# Altium footprint library PB-03F.PcbLib: 12 footprints
Each footprint in its own frame and in the unit in brackets; x right, y up, seen from the top. Pads: shape width x height; smd on the part's side, far side on the other; paste and mask are expansions set on the pad; w line width, h text height; cw(c..) or ccw(c..) is an arc to the next point about the centre after c.
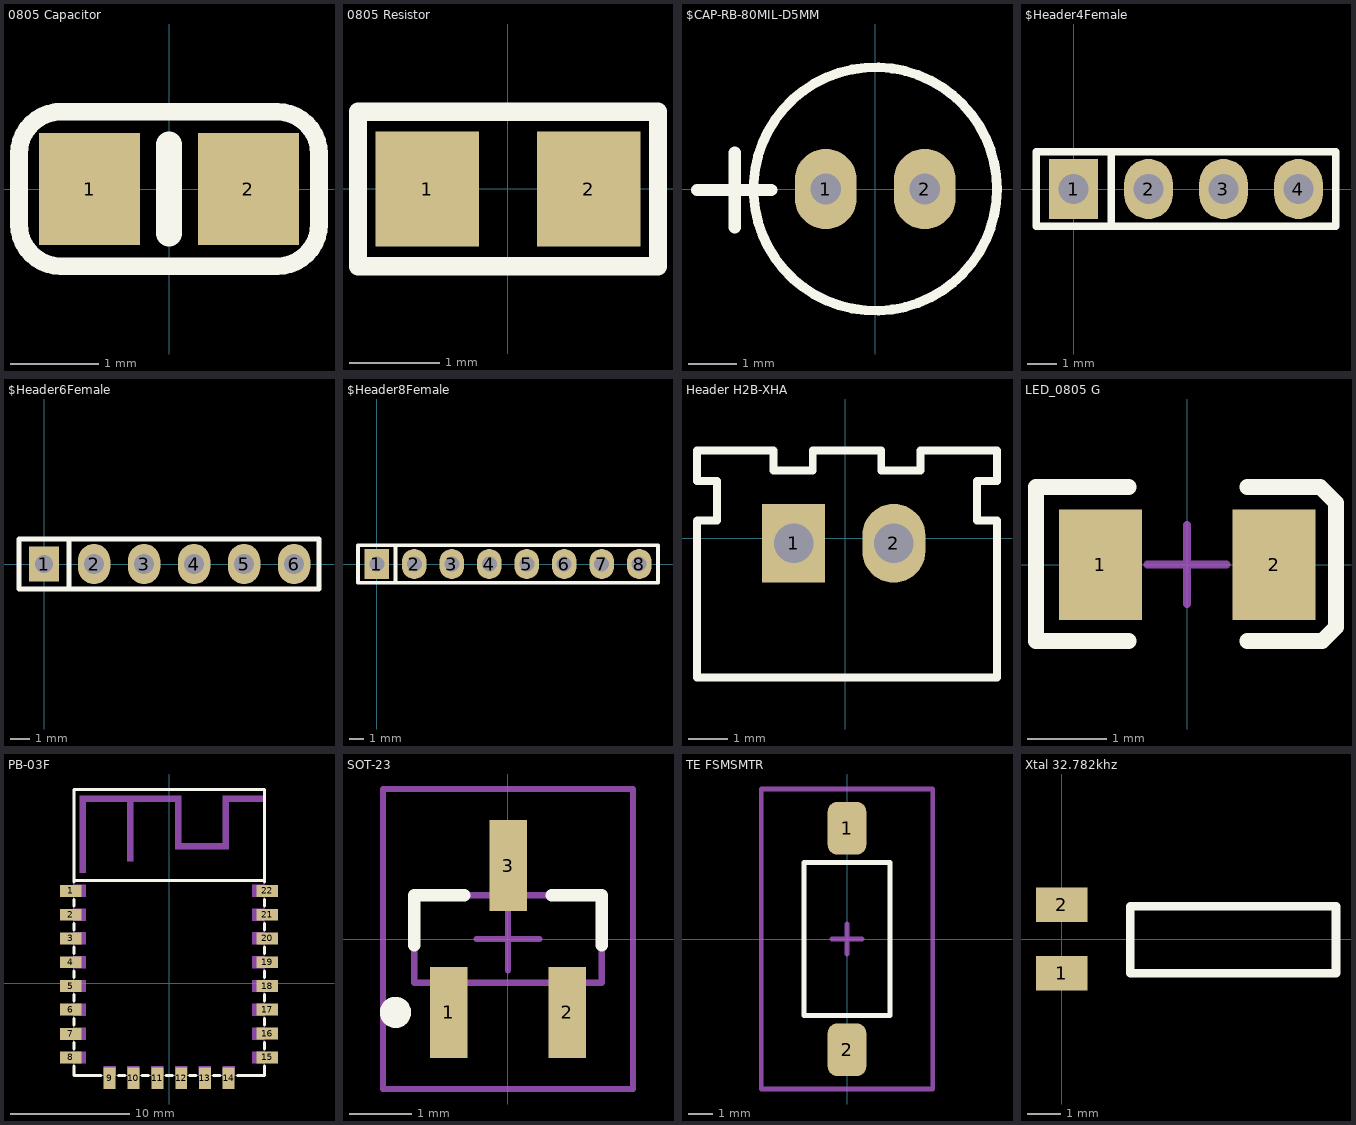
[diagram p0: the footprints below, top view; thin cyan lines are the x and y axes]

## 0805 Capacitor [mil]
height 60
pads (2):
  rect 45x50 smd: 1(-35.43,0) 2(35.43,0)
Top Overlay:
  lines w7.87: -50.2,34.45 48.23,34.45 cw(c48.23,15.75) 66.93,15.75 66.93,-15.75 cw(c48.23,-15.75) 48.23,-34.45 -48.23,-34.45 cw(c-48.23,-15.75) -66.93,-15.75 -66.93,15.75 cw(c-48.23,15.75) -48.23,34.45
  lines w11.81: 0,-19.68 0,19.68
3D body "SW3dPS-0805 SMD Capacitor.STEP": height 30.79, standoff 0, extent -39.36,-24.6 39.37,24.61

## 0805 Resistor [mil]
height 60
pads (2):
  rect 45x50 smd: 1(-35,0) 2(35,0)
Top Overlay:
  lines w7.87: -65,-33.46 65,-33.46 65,33.46 -65,33.46 -65,-33.46
3D body "User Library-RESC2012X05N.STEP": height 17.76, standoff 0, extent -39.36,-24.6 39.38,24.61

## $CAP-RB-80MIL-D5MM [mil]
height 60
pads (2):
  oval 50x65 hole 25: 1(-40,0) 2(40,0)
Top Overlay:
  circle w7.87: c0,0 r98.43
  lines w10: -144.08,-0.79 -84.08,-0.79 ; -113.69,-30.79 -113.69,29.21
3D body "SW3dPS-Cap electro 5x11x2mm.STEP": height 445.88, standoff -136.68, extent -99.43,-99.43 99.42,99.42

## $Header4Female [mil]
height 60
pads (4):
  rect 65x80 hole 40: 1(0,0)
  oval 65x80 hole 40: 2(100,0) 3(200,0) 4(300,0)
Top Overlay:
  lines w10: 50,-50 50,50 ; -50,-50 -50,50 350,50 350,-50 -50,-50
3D body: height 300, standoff -100, extent 285,-15 315,15
3D body: height 300, standoff -100, extent 185,-15 215,15
3D body: height 300, standoff -100, extent 85,-15 115,15
3D body: height 300, standoff -100, extent -15,-15 15,15
3D body: height 350, standoff 0, extent -50,-50 350,50

## $Header6Female [mil]
height 60
pads (6):
  rect 59.06x70.87 hole 35.43: 1(0,0)
  oval 65x80 hole 40: 2(100,0) 3(200,0) 4(300,0) 5(400,0) 6(500,0)
Top Overlay:
  lines w10: 50,-50 50,50 ; -50,-50 550,-50 550,50 -50,50 -50,-50
3D body: height 300, standoff -100, extent 485,-15 515,15
3D body: height 300, standoff -100, extent 385,-15 415,15
3D body: height 300, standoff -100, extent 285,-15 315,15
3D body: height 300, standoff -100, extent 185,-15 215,15
3D body: height 300, standoff -100, extent 85,-15 115,15
3D body: height 300, standoff -100, extent -15,-15 15,15
3D body: height 350, standoff 0, extent -50,-50 550,50

## $Header8Female [mil]
height 60
pads (8):
  rect 65x80 hole 40: 1(0,0)
  oval 65x80 hole 40: 2(100,0) 3(200,0) 4(300,0) 5(400,0) 6(500,0) 7(600,0) 8(700,0)
Top Overlay:
  lines w10: 50,-50 50,50 ; -50,-50 750,-50 750,50 -50,50 -50,-50
3D body: height 300, standoff -100, extent 685,-15 715,15
3D body: height 300, standoff -100, extent 585,-15 615,15
3D body: height 300, standoff -100, extent 485,-15 515,15
3D body: height 300, standoff -100, extent 385,-15 415,15
3D body: height 300, standoff -100, extent 285,-15 315,15
3D body: height 300, standoff -100, extent 185,-15 215,15
3D body: height 300, standoff -100, extent 85,-15 115,15
3D body: height 300, standoff -100, extent -15,-15 15,15
3D body: height 350, standoff 0, extent -50,-50 750,50

## Header H2B-XHA [mm]
height 1.524
pads (2):
  rect 1.6x2 hole 1: 1(-1.305,-0.125)
  oval 1.6x2 hole 1: 2(1.235,-0.125)
Top Overlay:
  lines w0.2: -3.25,1.45 -3.755,1.45 -3.755,2.225 -1.82,2.225 -1.82,1.72 -0.82,1.72 -0.82,2.225 0.915,2.225 0.915,1.72 1.915,1.72 1.915,2.225 3.85,2.225 3.85,1.45 3.345,1.45 3.345,0.45 3.85,0.45 3.85,-3.525 -3.755,-3.525 -3.755,0.445 -3.75,0.45 -3.245,0.45 -3.245,1.45
3D body "User Library-XH_Right.STEP": height 7, standoff -3.5, extent -4,-3.65 0.05,2.35
3D body "User Library-XH_Left.STEP": height 7, standoff -3.5, extent 0.05,-3.65 4.1,2.35

## LED_0805 G [mm]
height 1.524
pads (2):
  rect 1.05x1.4 smd: 1(-1.1,0) 2(1.1,0)
Top Overlay:
  lines w0.2: -0.74,-0.968 -1.915,-0.968 -1.915,0.982 -0.74,0.982 ; 0.76,-0.968 1.71,-0.968 1.885,-0.793 1.885,0.782 1.685,0.982 0.76,0.982
Mechanical 15:
  lines w0.1: -0.502,0 0.498,0 ; -0.002,-0.5 -0.002,0.5
3D body "User Library-User Library-led_0805 GRE.STEP": height 1.1, standoff 0, extent -1,-0.618 1.02,0.632

## PB-03F [mm]
height 1.524
pads (22):
  rect 1.8x1 smd paste+0 mask+0.05: 1(-8.255,7.747) 2(-8.255,5.74) 3(-8.255,3.759) 4(-8.255,1.753) 5(-8.255,-0.254) 6(-8.255,-2.235) 7(-8.255,-4.267) 8(-8.255,-6.248) 15(8.23,-6.248) 16(8.23,-4.242) 17(8.23,-2.235) 18(8.23,-0.254) 19(8.23,1.753) 20(8.23,3.759) 21(8.23,5.74) 22(8.23,7.747)
  rect 1x1.8 smd paste+0 mask+0.05: 9(-5.004,-8.001) 10(-2.997,-8.001) 11(-0.991,-8.001) 12(1.016,-8.001) 13(2.997,-8.001) 14(5.004,-8.001)
Top Overlay:
  lines w0.254: -8,-6.981 -8,-7.75 -5.731,-7.75 ; -8,-5.519 -8,-4.981 ; -8,-3.519 -8,-2.981 ; -8,-1.519 -8,-0.981 ; -8,0.481 -8,1.019 ; -8,2.481 -8,3.019 ; -8,4.481 -8,5.019 ; -8,6.481 -8,7.019 ; -8,8.481 -8,16.25 8,16.25 8,8.481 ; -8,8.613 8,8.613 ; -4.269,-7.75 -3.731,-7.75 ; -2.269,-7.75 -1.731,-7.75 ; -0.269,-7.75 0.269,-7.75 ; 1.731,-7.75 2.269,-7.75 ; 3.731,-7.75 4.269,-7.75 ; 5.731,-7.75 8,-7.75 8,-6.981 ; 8,-5.519 8,-4.981 ; 8,-3.519 8,-2.981 ; 8,-1.519 8,-0.981 ; 8,0.481 8,1.019 ; 8,2.481 8,3.019 ; 8,4.481 8,5.019 ; 8,6.481 8,7.019
Mechanical 6:
  region: 5,15.75 8,15.75 8,15.25 5,15.25
  region: 4.5,11.25 4.5,15.75 5,15.75 5,11.25
  region: 1,11.25 4.5,11.25 4.5,11.75 1,11.75
  region: 0.5,15.75 0.5,11.25 1,11.25 1,15.75
  region: -3,15.75 0.5,15.75 0.5,15.25 -3,15.25
  region: -3,15.25 -3,10.25 -3.5,10.25 -3.5,15.25
  region: -7,15.75 -3,15.75 -3,15.25 -7,15.25
  region: -7.5,9.25 -7.5,15.75 -7,15.75 -7,9.25
Mechanical 15:
  region: -5.5,-7.75 -5.5,-7 -4.5,-7 -4.5,-7.75
  region: -3.5,-7.75 -3.5,-7 -2.5,-7 -2.5,-7.75
  region: -1.5,-7.75 -1.5,-7 -0.5,-7 -0.5,-7.75
  region: 0.5,-7.75 0.5,-7 1.5,-7 1.5,-7.75
  region: 2.5,-7.75 2.5,-7 3.5,-7 3.5,-7.75
  region: 4.5,-7.75 4.5,-7 5.5,-7 5.5,-7.75
  region: -8,8.25 -7,8.25 -7,7.25 -8,7.25
  region: -8,6.25 -7,6.25 -7,5.25 -8,5.25
  region: -8,4.25 -7,4.25 -7,3.25 -8,3.25
  region: -8,2.25 -7,2.25 -7,1.25 -8,1.25
  region: -8,0.25 -7,0.25 -7,-0.75 -8,-0.75
  region: -8,-1.75 -7,-1.75 -7,-2.75 -8,-2.75
  region: -8,-3.75 -7,-3.75 -7,-4.75 -8,-4.75
  region: -8,-5.75 -7,-5.75 -7,-6.75 -8,-6.75
  region: 7,-5.75 8,-5.75 8,-6.75 7,-6.75
  region: 7,-3.75 8,-3.75 8,-4.75 7,-4.75
  region: 7,-1.75 8,-1.75 8,-2.75 7,-2.75
  region: 7,0.25 8,0.25 8,-0.75 7,-0.75
  region: 7,2.25 8,2.25 8,1.25 7,1.25
  region: 7,4.25 8,4.25 8,3.25 7,3.25
  region: 7,6.25 8,6.25 8,5.25 7,5.25
  region: 7,8.25 8,8.25 8,7.25 7,7.25
  region: -7.94,16.25 -7.941,16.274 -7.976,16.308 -8.024,16.308 -8.059,16.274 -8.06,16.25 -8.059,16.226 -8.024,16.192 -7.976,16.192 -7.941,16.226 -7.94,16.25
  lines w0.051: -8,-7.75 8,-7.75 8,16.25 -8,16.25 -8,-7.75

## SOT-23 [mm]
height 1.524
pads (3):
  rect 0.6x1.45 smd: 1(-0.95,-1.175) 2(0.95,-1.175) 3(0,1.175)
Top Overlay:
  circle w0.25: c-1.8,-1.175 r0.125
  lines w0.2: -1.5,-0.1 -1.5,0.7 -0.7,0.7 ; 0.7,0.7 1.5,0.7 1.5,-0.1
Mechanical 13:
  lines w0.1: -1.5,-0.7 -1.5,0.7 1.5,0.7 1.5,-0.7 -1.5,-0.7
Mechanical 15:
  lines w0.1: -0.5,0 0.5,0 ; 0,-0.5 0,0.5 ; -2,-2.4 -2,2.4 2,2.4 2,-2.4 -2,-2.4
3D body "User Library-N-MOS_BSS123_SOT23.STEP": height 1, standoff 0, extent -1.45,-1.225 1.45,1.075

## TE FSMSMTR [mm]
height 4.42
pads (2):
  rrect50% 1.6x2.19 smd: 1(0,4.595) 2(0,-4.595)
Top Overlay:
  lines w0.2: -1.778,-3.175 1.778,-3.175 1.778,3.175 -1.778,3.175 -1.778,-3.175
Mechanical 15:
  lines w0.2: -0.635,0 0.635,0 ; 0,-0.635 0,0.635 ; -3.556,-6.223 -3.556,6.223 3.556,6.223 3.556,-6.223 -3.556,-6.223
3D body "FSMSMTR.STEP": height 4.42, standoff 0, extent -1.75,-4.984 1.75,4.985

## Xtal 32.782khz [mil]
height 60
pads (2):
  rect 60x40 smd: 1(0,-40) 2(0,40)
Top Overlay:
  lines w10: 318,-40 80,-40 80,38 320,38 320,-40
3D body "User Library-AB26TRB.STEP": height 78.74, standoff 0, extent -31.5,-55.12 322.83,55.12